# EAGLE library part TPS63700DRCRG4 (library TPS63700)
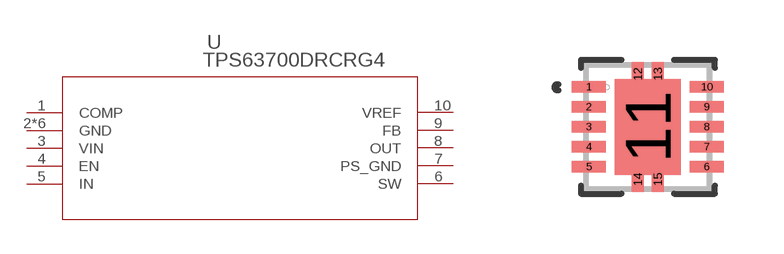
[diagram p0: symbol with the pads of DRC10_2P4X1P65; footprint DRC10_2P4X1P65]

Designator prefix U

## TPS63700DRCRG4 (MANUFACTURER_PART_NUMBER: TPS63700DRCRG4; VENDOR: Texas Instruments)  [DRC10_2P4X1P65]
1  COMP
2  GND  pwr
3  VIN  in
4  EN  in
5  IN  in
6  SW  out
7  PS_GND  in
8  OUT  in
9  FB  in
10  VREF  out
11  GND  pwr
12  GND  pwr
13  GND  pwr
14  GND  pwr
15  GND  pwr

## Footprint DRC10_2P4X1P65 (pad centres in mm)
smd 0.85 x 0.28: 1 -1.475,1; 2 -1.475,0.5; 3 -1.475,0; 4 -1.475,-0.5; 5 -1.475,-1; 6 1.475,-1; 7 1.475,-0.5; 8 1.475,0; 9 1.475,0.5; 10 1.475,1
smd 1.65 x 2.4: 11 0,0
smd 0.305 x 0.61: 12 -0.25,1.32; 13 0.25,1.32; 14 -0.25,-1.32; 15 0.25,-1.32